# EAGLE library part NRF9160 (library nRF9160)
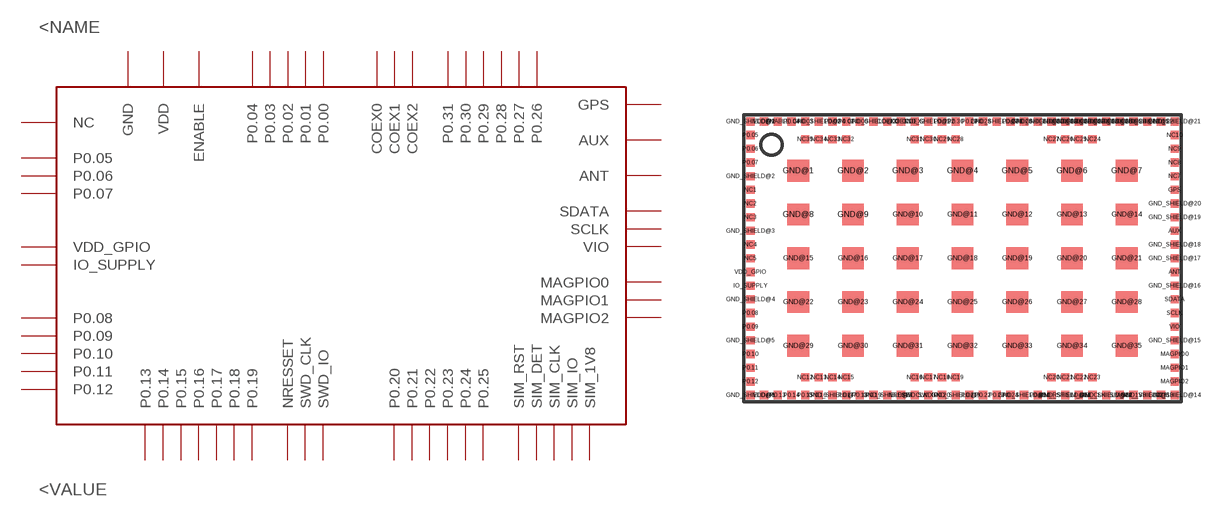
[diagram p0: symbol with the pads of NRF9160; footprint NRF9160]

Designator prefix IC

## NRF9160  [NRF9160]
ANT  ANT
AUX  AUX
COEX0  COEX0
COEX1  COEX1
COEX2  COEX2
ENABLE  ENABLE
GND@1  GND
GND@2  GND
GND@3  GND
GND@4  GND
GND@5  GND
GND@6  GND
GND@7  GND
GND@8  GND
GND@9  GND
GND@10  GND
GND@11  GND
GND@12  GND
GND@13  GND
GND@14  GND
GND@15  GND
GND@16  GND
GND@17  GND
GND@18  GND
GND@19  GND
GND@20  GND
GND@21  GND
GND@22  GND
GND@23  GND
GND@24  GND
GND@25  GND
GND@26  GND
GND@27  GND
GND@28  GND
GND@29  GND
GND@30  GND
GND@31  GND
GND@32  GND
GND@33  GND
GND@34  GND
GND@35  GND
GND_SHIELD@1  GND
GND_SHIELD@2  GND
GND_SHIELD@3  GND
GND_SHIELD@4  GND
GND_SHIELD@5  GND
GND_SHIELD@6  GND
GND_SHIELD@7  GND
GND_SHIELD@8  GND
GND_SHIELD@9  GND
GND_SHIELD@10  GND
GND_SHIELD@11  GND
GND_SHIELD@12  GND
GND_SHIELD@13  GND
GND_SHIELD@14  GND
GND_SHIELD@15  GND
GND_SHIELD@16  GND
GND_SHIELD@17  GND
GND_SHIELD@18  GND
GND_SHIELD@19  GND
GND_SHIELD@20  GND
GND_SHIELD@21  GND
GND_SHIELD@22  GND
GND_SHIELD@23  GND
GND_SHIELD@24  GND
GND_SHIELD@25  GND
GND_SHIELD@26  GND
GND_SHIELD@27  GND
GND_SHIELD@28  GND
GND_SHIELD@29  GND
GND_SHIELD@30  GND
GND_SHIELD@31  GND
GND_SHIELD@32  GND
GND_SHIELD@33  GND
GND_SHIELD@34  GND
GPS  GPS
IO_SUPPLY  IO_SUPPLY
MAGPIO0  MAGPIO0
MAGPIO1  MAGPIO1
MAGPIO2  MAGPIO2
NC1  NC
NC2  NC
NC3  NC
NC4  NC
NC5  NC
NC6  NC
NC7  NC
NC8  NC
NC9  NC
NC10  NC
NC11  NC
NC12  NC
NC13  NC
NC14  NC
NC15  NC
NC16  NC
NC17  NC
NC18  NC
NC19  NC
NC20  NC
NC21  NC
NC22  NC
NC23  NC
NC24  NC
NC25  NC
NC26  NC
NC27  NC
NC28  NC
NC29  NC
NC30  NC
NC31  NC
NC32  NC
NC33  NC
NC34  NC
NC35  NC
NRESET  NRESSET
P0.00  P0.00
P0.01  P0.01
P0.02  P0.02
P0.03  P0.03
P0.04  P0.04
P0.05  P0.05
P0.06  P0.06
P0.07  P0.07
P0.08  P0.08
P0.09  P0.09
P0.10  P0.10
P0.11  P0.11
P0.12  P0.12
P0.13  P0.13
P0.14  P0.14
P0.15  P0.15
P0.16  P0.16
P0.17  P0.17
P0.18  P0.18
P0.19  P0.19
P0.20  P0.20
P0.21  P0.21
P0.22  P0.22
P0.23  P0.23
P0.24  P0.24
P0.25  P0.25
P0.26  P0.26
P0.27  P0.27
P0.28  P0.28
P0.29  P0.29
P0.30  P0.30
P0.31  P0.31
SCLK  SCLK
SDATA  SDATA
SIM_1V8  SIM_1V8
SIM_CLK  SIM_CLK
SIM_DET  SIM_DET
SIM_IO  SIM_IO
SIM_RST  SIM_RST
SWDCLK  SWD_CLK
SWDIO  SWD_IO
VDD@1  VDD
VDD@2  VDD
VDD_GPIO  VDD_GPIO
VIO  VIO

## Footprint NRF9160 (pad centres in mm)
smd 0.3 x 0.3: ANT 15.75,4.75; AUX 15.75,6.25; COEX0 5.25,10.25; COEX1 5.75,10.25; COEX2 6.25,10.25; ENABLE 1.25,10.25; GND_SHIELD@1 0.25,10.25; GND_SHIELD@2 0.25,8.25; GND_SHIELD@3 0.25,6.25; GND_SHIELD@4 0.25,3.75; GND_SHIELD@5 0.25,2.25; GND_SHIELD@6 0.25,0.25; GND_SHIELD@7 3.25,0.25; GND_SHIELD@8 5.25,0.25; GND_SHIELD@9 7.75,0.25; GND_SHIELD@10 10.25,0.25; GND_SHIELD@11 11.75,0.25; GND_SHIELD@12 13.25,0.25; GND_SHIELD@13 14.75,0.25; GND_SHIELD@14 15.75,0.25; GND_SHIELD@15 15.75,2.25; GND_SHIELD@16 15.75,4.25; GND_SHIELD@17 15.75,5.25; GND_SHIELD@18 15.75,5.75; GND_SHIELD@19 15.75,6.75; GND_SHIELD@20 15.75,7.25; GND_SHIELD@21 15.75,10.25; GND_SHIELD@22 14.75,10.25; GND_SHIELD@23 14.25,10.25; GND_SHIELD@24 13.75,10.25; GND_SHIELD@25 13.25,10.25; GND_SHIELD@26 12.75,10.25; GND_SHIELD@27 12.25,10.25; GND_SHIELD@28 11.75,10.25; GND_SHIELD@29 11.25,10.25; GND_SHIELD@30 10.75,10.25; GND_SHIELD@31 9.25,10.25; GND_SHIELD@32 6.75,10.25; GND_SHIELD@33 4.75,10.25; GND_SHIELD@34 2.75,10.25; GPS 15.75,7.75; IO_SUPPLY 0.25,4.25; MAGPIO0 15.75,1.75; MAGPIO1 15.75,1.25; MAGPIO2 15.75,0.75; NC1 0.25,7.75; NC2 0.25,7.25; NC3 0.25,6.75; NC4 0.25,5.75; NC5 0.25,5.25; NC6 15.25,0.25; NC7 15.75,8.25; NC8 15.75,8.75; NC9 15.75,9.25; NC10 15.75,9.75; NC11 15.25,10.25; NC12 2.25,0.9; NC13 2.75,0.9; NC14 3.25,0.9; NC15 3.75,0.9; NC16 6.25,0.9; NC17 6.75,0.9; NC18 7.25,0.9; NC19 7.75,0.9; NC20 11.25,0.9; NC21 11.75,0.9; NC22 12.25,0.9; NC23 12.75,0.9; NC24 12.75,9.6; NC25 12.25,9.6; NC26 11.75,9.6; NC27 11.25,9.6; NC28 7.75,9.6; NC29 7.25,9.6; NC30 6.75,9.6; NC31 6.25,9.6; NC32 3.75,9.6; NC33 3.25,9.6; NC34 2.75,9.6; NC35 2.25,9.6; NRESET 5.75,0.25; P0.00 4.25,10.25; P0.01 3.75,10.25; P0.02 3.25,10.25; P0.03 2.25,10.25; P0.04 1.75,10.25; P0.05 0.25,9.75; P0.06 0.25,9.25; P0.07 0.25,8.75; P0.08 0.25,3.25; P0.09 0.25,2.75; P0.10 0.25,1.75; P0.11 0.25,1.25; P0.12 0.25,0.75; P0.13 1.25,0.25; P0.14 1.75,0.25; P0.15 2.25,0.25; P0.16 2.75,0.25; P0.17 3.75,0.25; P0.18 4.25,0.25; P0.19 4.75,0.25; P0.20 7.25,0.25; P0.21 8.25,0.25; P0.22 8.75,0.25; P0.23 9.25,0.25; P0.24 9.75,0.25; P0.25 10.75,0.25; P0.26 10.25,10.25; P0.27 9.75,10.25; P0.28 8.75,10.25; P0.29 8.25,10.25; P0.30 7.75,10.25; P0.31 7.25,10.25; SCLK 15.75,3.25; SDATA 15.75,3.75; SIM_1V8 14.25,0.25; SIM_CLK 12.75,0.25; SIM_DET 12.25,0.25; SIM_IO 13.75,0.25; SIM_RST 11.25,0.25; SWDCLK 6.25,0.25; SWDIO 6.75,0.25; VDD@1 0.75,0.25; VDD@2 0.75,10.25; VDD_GPIO 0.25,4.75; VIO 15.75,2.75
smd 0.8 x 0.8: GND@1 2,8.45; GND@2 4,8.45; GND@3 6,8.45; GND@4 8,8.45; GND@5 10,8.45; GND@6 12,8.45; GND@7 14,8.45; GND@8 2,6.85; GND@9 4,6.85; GND@10 6,6.85; GND@11 8,6.85; GND@12 10,6.85; GND@13 12,6.85; GND@14 14,6.85; GND@15 2,5.25; GND@16 4,5.25; GND@17 6,5.25; GND@18 8,5.25; GND@19 10,5.25; GND@20 12,5.25; GND@21 14,5.25; GND@22 2,3.65; GND@23 4,3.65; GND@24 6,3.65; GND@25 8,3.65; GND@26 10,3.65; GND@27 12,3.65; GND@28 14,3.65; GND@29 2,2.05; GND@30 4,2.05; GND@31 6,2.05; GND@32 8,2.05; GND@33 10,2.05; GND@34 12,2.05; GND@35 14,2.05